# Altium integrated library 5-103634-4.IntLib: 1 symbol
Pins are listed as number, name and electrical type; pins without a type are passive.

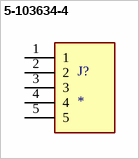
[diagram p0: symbol 5-103634-4]

## 5-103634-4
designator J?
MP: 5-103634-4; Package: None; Price: None; Value: *; Availability: Unavailable
footprint TE_5-103634-4
pins: 1, 2, 3, 4, 5